# EAGLE library part PROGRAMMER_74*241 (library programmer)
Octal BUFFER and LINE DRIVER, 3-state
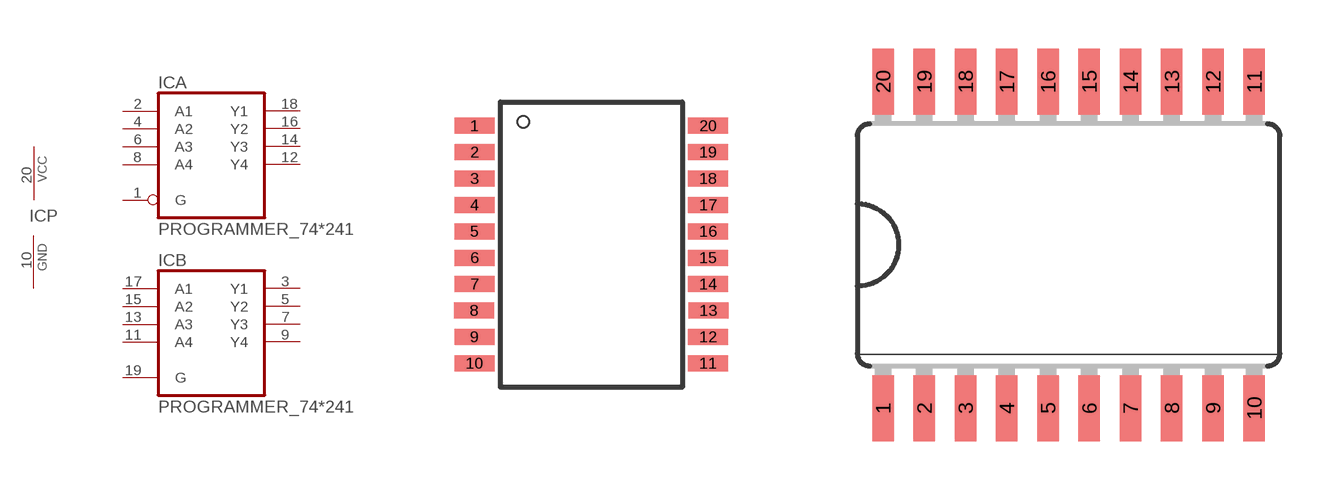
[diagram p3: symbol with the pads of PROGRAMMER_TSSOP20; footprints PROGRAMMER_TSSOP20, PROGRAMMER_SO20W]

Designator prefix IC; gates A=PROGRAMMER_74241 B=PROGRAMMER_74241A P=PROGRAMMER_PWRN

## PROGRAMMER_74241  [PROGRAMMER_TSSOP20]
1  A:G  in
2  A:A1  in
3  B:Y1  hiz
4  A:A2  in
5  B:Y2  hiz
6  A:A3  in
7  B:Y3  hiz
8  A:A4  in
9  B:Y4  hiz
10  P:GND  pwr
11  B:A4  in
12  A:Y4  hiz
13  B:A3  in
14  A:Y3  hiz
15  B:A2  in
16  A:Y2  hiz
17  B:A1  in
18  A:Y1  hiz
19  B:G  in
20  P:VCC  pwr

## PROGRAMMER_74241DW, PROGRAMMER_74LS241DW, PROGRAMMER_74S241DW  [PROGRAMMER_SO20W]
1  A:G  in
2  A:A1  in
3  B:Y4  hiz
4  A:A2  in
5  B:Y3  hiz
6  A:A3  in
7  B:Y2  hiz
8  A:A4  in
9  B:Y1  hiz
10  P:GND  pwr
11  B:A1  in
12  A:Y4  hiz
13  B:A2  in
14  A:Y3  hiz
15  B:A3  in
16  A:Y2  hiz
17  B:A4  in
18  A:Y1  hiz
19  B:G  in
20  P:VCC  pwr

## PROGRAMMER_74241FK, PROGRAMMER_74LS241FK, PROGRAMMER_74S241FK  [PROGRAMMER_LCC20]
Pads as for PROGRAMMER_SO20W

## PROGRAMMER_74241N, PROGRAMMER_74LS241N, PROGRAMMER_74S241N  [PROGRAMMER_DIL20]
Pads as for PROGRAMMER_SO20W

## Footprint PROGRAMMER_TSSOP20 (pad centres in mm)
smd 1 x 0.4: 1 -2.937,2.693; 2 -2.937,2.032; 3 -2.937,1.372; 4 -2.937,0.712; 5 -2.937,0.051; 6 -2.937,-0.609; 7 -2.937,-1.27; 8 -2.943,-1.93; 9 -2.937,-2.59; 10 -2.937,-3.251; 11 2.905,-3.251; 12 2.905,-2.59; 13 2.911,-1.93; 14 2.905,-1.27; 15 2.905,-0.609; 16 2.905,0.051; 17 2.905,0.712; 18 2.905,1.372; 19 2.905,2.032; 20 2.905,2.693

## Footprint PROGRAMMER_SO20W (pad centres in mm)
Wide Small Outline package 300 mil
smd 0.66 x 2.032: 1 -5.715,-5.029; 2 -4.445,-5.029; 3 -3.175,-5.029; 4 -1.905,-5.029; 5 -0.635,-5.029; 6 0.635,-5.029; 7 1.905,-5.029; 8 3.175,-5.029; 9 4.445,-5.029; 10 5.715,-5.029; 11 5.715,5.029; 12 4.445,5.029; 13 3.175,5.029; 14 1.905,5.029; 15 0.635,5.029; 16 -0.635,5.029; 17 -1.905,5.029; 18 -3.175,5.029; 19 -4.445,5.029; 20 -5.715,5.029

## Footprint PROGRAMMER_LCC20 (pad centres in mm)
Leadless Chip Carrier Ceramic Package
smd 0.8 x 3.4: 1 0,3.8
smd 0.8 x 2: 2 -1.27,4.5; 3 -2.54,4.5; 9 -2.54,-4.5; 10 -1.27,-4.5; 11 0,-4.5; 12 1.27,-4.5; 13 2.54,-4.5; 19 2.54,4.5; 20 1.27,4.5
smd 2 x 0.8: 4 -4.5,2.54; 5 -4.5,1.27; 6 -4.5,0; 7 -4.5,-1.27; 8 -4.5,-2.54; 14 4.5,-2.54; 15 4.5,-1.27; 16 4.5,0; 17 4.5,1.27; 18 4.5,2.54

## Footprint PROGRAMMER_DIL20 (pad centres in mm)
Dual In Line Package
drill 0.813 long: 1 -11.43,-3.81; 2 -8.89,-3.81; 3 -6.35,-3.81; 4 -3.81,-3.81; 5 -1.27,-3.81; 6 1.27,-3.81; 7 3.81,-3.81; 8 6.35,-3.81; 9 8.89,-3.81; 10 11.43,-3.81; 11 11.43,3.81; 12 8.89,3.81; 13 6.35,3.81; 14 3.81,3.81; 15 1.27,3.81; 16 -1.27,3.81; 17 -3.81,3.81; 18 -6.35,3.81; 19 -8.89,3.81; 20 -11.43,3.81